# EAGLE library part TI_NATIONAL_SEMICONDUCTOR_LM6172IM-NOPB (library Upverter Library)
AMP-OPA-LM6132-8
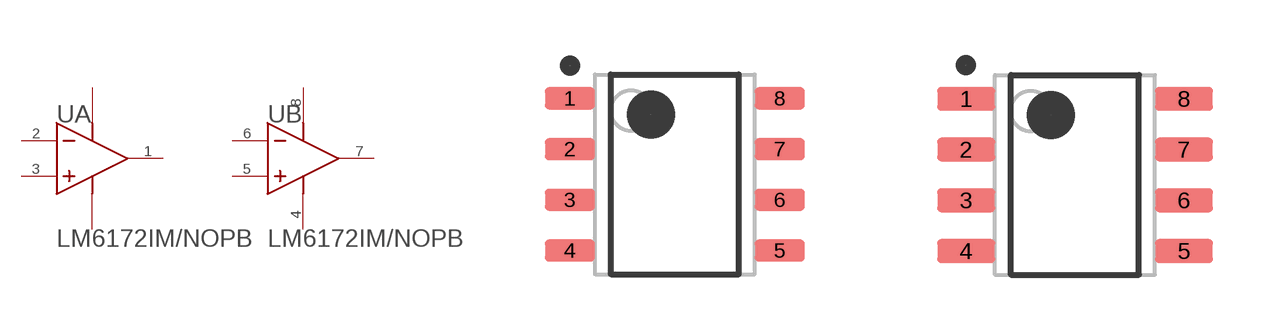
[diagram p0: symbol with the pads of TI_NATIONAL_SEMICONDUCTOR_LM6172IM-NOPB_0; footprints TI_NATIONAL_SEMICONDUCTOR_LM6172IM-NOPB_0, TI_NATIONAL_SEMICONDUCTOR_LM6172IM-NOPB_1]

Designator prefix U; gates A=TI_NATIONAL_SEMICONDUCTOR_LM6172IM-NOPB_0_0 B=TI_NATIONAL_SEMICONDUCTOR_LM6172IM-NOPB_0_1

## TI_NATIONAL_SEMICONDUCTOR_LM6172IM-NOPBTI_NATIONAL_SEMICONDUCTOR_LM6172IM-NOPB_0_0 (Code__IPC: SOIC127P600-8; Comp_Type: Amplifiers; Component_Link_1_Description: Datasheet URL; Component_Link_1_URL: http://www.ti.com/general/docs/lit/getliterature.tsp?genericPartNumber=LM6172&fileType=pdf; MF: TI National Semiconductor; MPN: LM6172IM/NOPB; Package_Description: SOIC Narrow, 4.9 x 3.9 x 1.45mm, 8 Lead, 1.27mm Pitch; Package_Reference: D0008A; Package_Top_Marking: NSZXTT*LM61*72IM; Pin_Count: 8; Power_Wise: Y; ciiva_ids: 1323028; footprint_variant_name_0: Level C; footprint_variant_name_1: Level B; footprint_variant_name_2: Level A; import_ts: 1521855365; imported: yes; imported_from: vault; package: MS-012-AA; prefix: U; release_date: 1464069198; rohs: Yes; vault_guid: 093B86E2-0581-4C4B-BA7B-3CBA87BE4172; vault_revision: E30D67EB-8B1F-40F4-9CD0-6E65543AADAE)  [TI_NATIONAL_SEMICONDUCTOR_LM6172IM-NOPB_0]
1  A:OUTA  out
2  A:INA-  in
3  A:INA+  in
4  B:V-  pwr
5  B:INB+  in
6  B:INB-  in
7  B:OUTB  out
8  B:V+  pwr

## TI_NATIONAL_SEMICONDUCTOR_LM6172IM-NOPBTI_NATIONAL_SEMICONDUCTOR_LM6172IM-NOPB_0_1 (Code__IPC: SOIC127P600-8; Comp_Type: Amplifiers; Component_Link_1_Description: Datasheet URL; Component_Link_1_URL: http://www.ti.com/general/docs/lit/getliterature.tsp?genericPartNumber=LM6172&fileType=pdf; MF: TI National Semiconductor; MPN: LM6172IM/NOPB; Package_Description: SOIC Narrow, 4.9 x 3.9 x 1.45mm, 8 Lead, 1.27mm Pitch; Package_Reference: D0008A; Package_Top_Marking: NSZXTT*LM61*72IM; Pin_Count: 8; Power_Wise: Y; ciiva_ids: 1323028; footprint_variant_name_0: Level C; footprint_variant_name_1: Level B; footprint_variant_name_2: Level A; import_ts: 1521855365; imported: yes; imported_from: vault; package: MS-012-AA; prefix: U; release_date: 1464069198; rohs: Yes; vault_guid: 093B86E2-0581-4C4B-BA7B-3CBA87BE4172; vault_revision: E30D67EB-8B1F-40F4-9CD0-6E65543AADAE)  [TI_NATIONAL_SEMICONDUCTOR_LM6172IM-NOPB_1]
Pads as for TI_NATIONAL_SEMICONDUCTOR_LM6172IM-NOPB_0

## TI_NATIONAL_SEMICONDUCTOR_LM6172IM-NOPBTI_NATIONAL_SEMICONDUCTOR_LM6172IM-NOPB_0_2 (Code__IPC: SOIC127P600-8; Comp_Type: Amplifiers; Component_Link_1_Description: Datasheet URL; Component_Link_1_URL: http://www.ti.com/general/docs/lit/getliterature.tsp?genericPartNumber=LM6172&fileType=pdf; MF: TI National Semiconductor; MPN: LM6172IM/NOPB; Package_Description: SOIC Narrow, 4.9 x 3.9 x 1.45mm, 8 Lead, 1.27mm Pitch; Package_Reference: D0008A; Package_Top_Marking: NSZXTT*LM61*72IM; Pin_Count: 8; Power_Wise: Y; ciiva_ids: 1323028; footprint_variant_name_0: Level C; footprint_variant_name_1: Level B; footprint_variant_name_2: Level A; import_ts: 1521855365; imported: yes; imported_from: vault; package: MS-012-AA; prefix: U; release_date: 1464069198; rohs: Yes; vault_guid: 093B86E2-0581-4C4B-BA7B-3CBA87BE4172; vault_revision: E30D67EB-8B1F-40F4-9CD0-6E65543AADAE)  [TI_NATIONAL_SEMICONDUCTOR_LM6172IM-NOPB_2]
Pads as for TI_NATIONAL_SEMICONDUCTOR_LM6172IM-NOPB_0

## Footprint TI_NATIONAL_SEMICONDUCTOR_LM6172IM-NOPB_0 (pad centres in mm)
AMP-OPA-LM6132-8
smd 1.25 x 0.55: 1 -2.625,1.905; 2 -2.625,0.635; 3 -2.625,-0.635; 4 -2.625,-1.905; 5 2.625,-1.905; 6 2.625,-0.635; 7 2.625,0.635; 8 2.625,1.905

## Footprint TI_NATIONAL_SEMICONDUCTOR_LM6172IM-NOPB_1 (pad centres in mm)
AMP-OPA-LM6132-8
smd 1.45 x 0.6: 1 -2.725,1.905; 2 -2.725,0.635; 3 -2.725,-0.635; 4 -2.725,-1.905; 5 2.725,-1.905; 6 2.725,-0.635; 7 2.725,0.635; 8 2.725,1.905

## Footprint TI_NATIONAL_SEMICONDUCTOR_LM6172IM-NOPB_2 (pad centres in mm)
AMP-OPA-LM6132-8
smd 1.65 x 0.65: 1 -2.825,1.905; 2 -2.825,0.635; 3 -2.825,-0.635; 4 -2.825,-1.905; 5 2.825,-1.905; 6 2.825,-0.635; 7 2.825,0.635; 8 2.825,1.905